# EAGLE library part SD-CARD (library vincent)
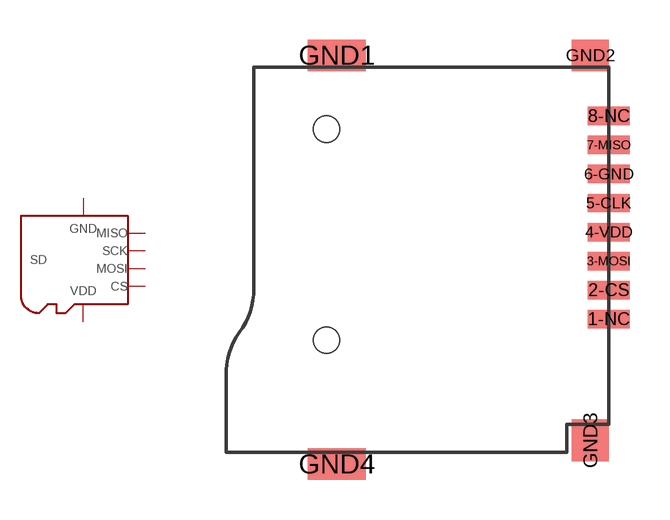
[diagram p12: symbol with the pads of SD_MICRO_SOCKET; footprint SD_MICRO_SOCKET]

Designator prefix SD

## SD-CARD  [SD_MICRO_SOCKET]
2-CS  2-CS
3-MOSI  3-MOSI
4-VDD  4-VDD
5-CLK  5-CLK
6-GND  6-GND
7-MISO  7-MISO
GND1  6-GND
GND2  6-GND
GND3  6-GND
GND4  6-GND

## Footprint SD_MICRO_SOCKET (pad centres in mm)
smd 1.6 x 0.7: 1-NC 0,-3.2; 2-CS 0,-2.1; 3-MOSI 0,-1; 4-VDD 0,0.1; 5-CLK 0,1.2; 6-GND 0,2.3; 7-MISO 0,3.4; 8-NC 0,4.5
smd 2.2 x 1.2: GND1 -10.3,6.8; GND4 -10.3,-8.7
smd 1.4 x 1.2: GND2 -0.7,6.8
smd 1.4 x 1.6: GND3 -0.7,-7.8
hole 1 at -10.7,4
hole 1 at -10.7,-4